# EAGLE library part LM5118 (library LM5118)
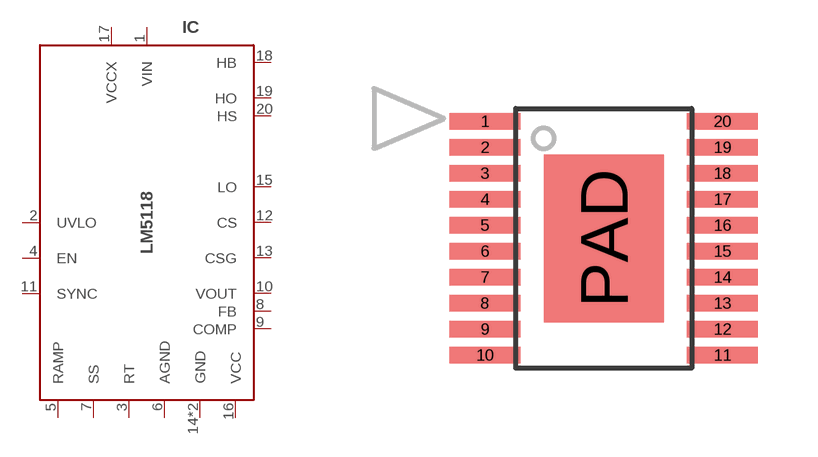
[diagram p0: symbol with the pads of HTSSOP-20; footprint HTSSOP-20]

Designator prefix IC

## LM5118MH/NOPB, LM5118MHX/NOPB  [HTSSOP-20]
1  VIN  in
2  UVLO  in
3  RT
4  EN  in
5  RAMP
6  AGND  in
7  SS
8  FB  in
9  COMP
10  VOUT  in
11  SYNC  in
12  CS  in
13  CSG  in
14  GND  pwr
15  LO  out
16  VCC
17  VCCX  in
18  HB
19  HO  out
20  HS  in
PAD  GND  pwr

## Footprint HTSSOP-20 (pad centres in mm)
smd 1.78 x 0.42: 1 -2.97,2.925; 2 -2.97,2.275; 3 -2.97,1.625; 4 -2.97,0.975; 5 -2.97,0.325; 6 -2.97,-0.325; 7 -2.97,-0.975; 8 -2.97,-1.625; 9 -2.97,-2.275; 10 -2.97,-2.925; 11 2.97,-2.925; 12 2.97,-2.275; 13 2.97,-1.625; 14 2.97,-0.975; 15 2.97,-0.325; 16 2.97,0.325; 17 2.97,0.975; 18 2.97,1.625; 19 2.97,2.275; 20 2.97,2.925
smd 3 x 4.2: PAD 0,0